# EAGLE library part DFR0229 (library ArduinoNanoV30)
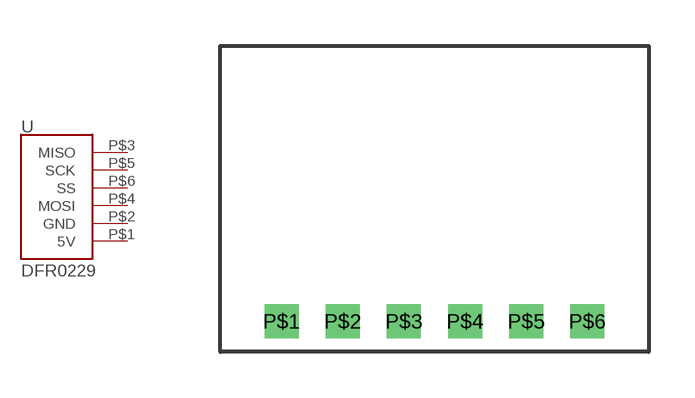
[diagram p1: symbol with the pads of DFR0229; footprint DFR0229]

Designator prefix -

## DFR0229  [DFR0229]
P$1  5V
P$2  GND
P$3  MISO
P$4  MOSI
P$5  SCK
P$6  SS

## Footprint DFR0229 (pad centres in mm)
drill 0.6 square: P$1 -4,-4; P$2 -2,-4; P$3 0,-4; P$4 2,-4; P$5 4,-4; P$6 6,-4